# Altium schematic symbol library RBS040200.SchLib: 1 symbol
Pins are listed as number, name and electrical type; pins without a type are passive.

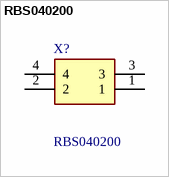
[diagram p0: symbol RBS040200]

## RBS040200
designator X?
15 , 25 mA, 24V, Non-Mercury Tilt Switch; Manufacturer_Name: Assemtech; Geometry.Height: 6mm; Manufacturer_Part_Number: RBS040200; Mouser Part Number: *; Mouser Price/Stock: *; Arrow Part Number: *; Arrow Price/Stock: *; Datasheet Link: http://uk.rs-online.com/web/p/products/3615093
footprint RBS040200
pins: 1, 2, 3, 4